# Altium schematic symbol library SN74LVC1G125.SchLib: 1 symbol
Pins are listed as number, name and electrical type; pins without a type are passive.

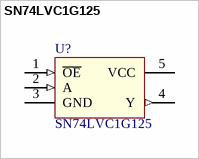
[diagram p0: symbol SN74LVC1G125]

## SN74LVC1G125
designator U?
value: SN74LVC1G125
footprint DBV005_N (SOT23, 5-Leads, Body 2.9x1.6mm, Pitch 0.95mm, Lead Span 2.8mm, IPC Medium Density)
pins: 1 ~{OE} (in), 2 A (in), 3 GND (power), 4 Y (out), 5 VCC (power)